# EAGLE library part MOC3063*M (library IC)
6-Pin DIP Zero-Cross Phototriac Driver Optocoupler(600 Volt Peak)
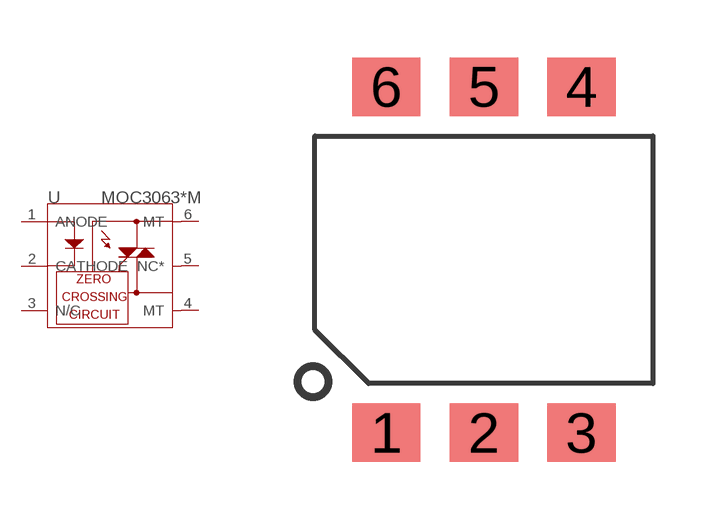
[diagram p56: symbol with the pads of SM6; footprint SM6]

Designator prefix U

## MOC3063MS  [SM6]
1  ANODE
2  CATHODE
3  N/C
4  MT
5  NC*
6  MT

## Footprint SM6 (pad centres in mm)
smd 1.78 x 1.52: 1 -2.54,-4.505; 2 0,-4.505; 3 2.54,-4.505; 4 2.54,4.505; 5 0,4.505; 6 -2.54,4.505